# Altium schematic symbol library Resistor-4.SchLib: 1 symbol
Pins are listed as number, name and electrical type; pins without a type are passive.

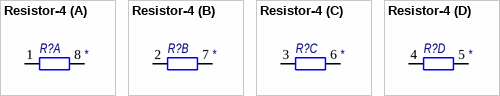
[diagram p0: symbol Resistor-4]

## Resistor-4
designator R?, comment 4 Chip Resistor Array  (value not drawn)
Потребление, Вт: 0.0; Назначение: 4 Chip Resistor Array; Наименование: 4 Chip Resistor Array; Value: *
footprint TC124 (Chip Array, Concave, 8-Leads, Pitch 0,50mm,  Body 2,00x1,00mm,  IPC Medium Density)
footprint CAT16-J4 (Chip Array, Concave, 8-Leads, Pitch 0,80mm,  Body 3,20x1,60mm,  IPC Medium Density)
part A pins: 1, 8
part B pins: 2, 7
part C pins: 3, 6
part D pins: 4, 5